# Altium footprint library 74HC595D.PcbLib: 2 footprints
Each footprint in its own frame and in the unit in brackets; x right, y up, seen from the top. Pads: shape width x height; smd on the part's side, far side on the other; paste and mask are expansions set on the pad; w line width, h text height; cw(c..) or ccw(c..) is an arc to the next point about the centre after c.
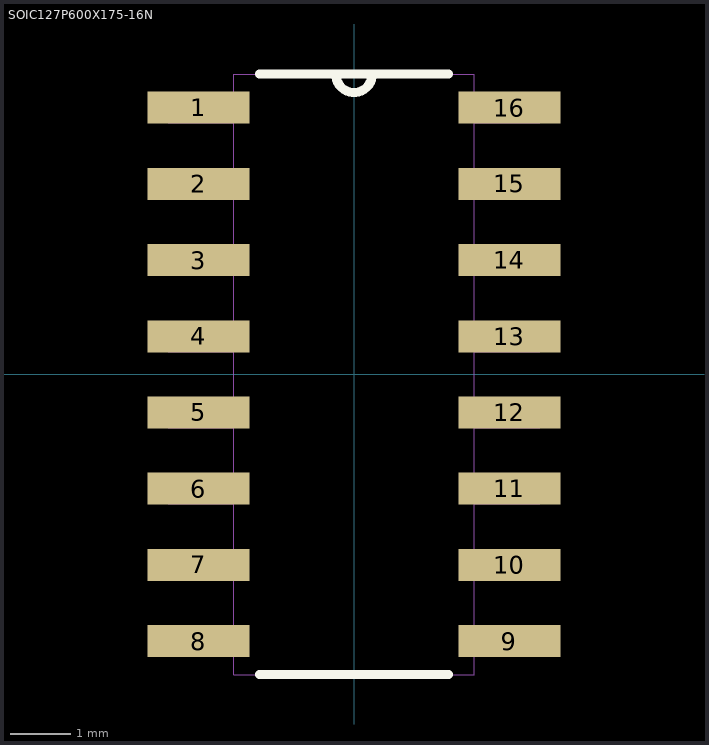
[diagram p0: the footprints below, top view; thin cyan lines are the x and y axes]

## PCBComponent_1 [mil]

## SOIC127P600X175-16N [mil]
pads (16):
  rect 67x21 smd: 1(-102,175) 2(-102,125) 3(-102,75) 4(-102,25) 5(-102,-25) 6(-102,-75) 7(-102,-125) 8(-102,-175) 9(102,-175) 10(102,-125) 11(102,-75) 12(102,-25) 13(102,25) 14(102,75) 15(102,125) 16(102,175)
Top Overlay:
  lines w6: -62,-197 62,-197 ; -62,197 -12,197 ; 62,197 12,197 ; -12,197 ccw(c0,197) 12,197 ; -12,197 12,197
Mechanical 4:
  lines w0: -122,-185 -79,-185 ; -122,-185 -122,-165 ; -122,-185 -79,-185 ; -122,-185 -122,-165 ; -122,-165 -79,-165 ; -122,-165 -79,-165 ; -122,-135 -79,-135 ; -122,-135 -122,-115 ; -122,-135 -79,-135 ; -122,-135 -122,-115 ; -122,-115 -79,-115 ; -122,-115 -79,-115 ; -122,-85 -79,-85 ; -122,-85 -122,-65 ; -122,-85 -79,-85 ; -122,-85 -122,-65 ; -122,-65 -79,-65 ; -122,-65 -79,-65 ; -122,-35 -79,-35 ; -122,-35 -122,-15 ; -122,-35 -79,-35 ; -122,-35 -122,-15 ; -122,-15 -79,-15 ; -122,-15 -79,-15 ; -122,15 -79,15 ; -122,15 -122,35 ; -122,15 -79,15 ; -122,15 -122,35 ; -122,35 -79,35 ; -122,35 -79,35 ; -122,65 -79,65 ; -122,65 -122,85 ; -122,65 -79,65 ; -122,65 -122,85 ; -122,85 -79,85 ; -122,85 -79,85 ; -122,115 -79,115 ; -122,115 -122,135 ; -122,115 -79,115 ; -122,115 -122,135 ; -122,135 -79,135 ; -122,135 -79,135 ; -122,165 -79,165 ; -122,165 -122,185 ; -122,165 -79,165 ; -122,165 -122,185 ; -122,185 -79,185 ; -122,185 -79,185 ; -79,-197 -79,197 ; -79,-197 79,-197 ; -79,-197 -79,197 ; -79,-197 79,-197 ; -79,-185 -79,-165 ; -79,-185 -79,-165 ; -79,-135 -79,-115 ; -79,-135 -79,-115 ; -79,-85 -79,-65 ; -79,-85 -79,-65 ; -79,-35 -79,-15 ; -79,-35 -79,-15 ; -79,15 -79,35 ; -79,15 -79,35 ; -79,65 -79,85 ; -79,65 -79,85 ; -79,115 -79,135 ; -79,115 -79,135 ; -79,165 -79,185 ; -79,165 -79,185 ; -79,197 -12,197 ; -79,197 -12,197 ; -12,197 ccw(c0,197) 12,197 ; -12,197 ccw(c0,197) 12,197 ; -12,197 12,197 ; -12,197 12,197 ; 12,197 79,197 ; 12,197 79,197 ; 79,-197 79,197 ; 79,-197 79,197 ; 79,-185 122,-185 ; 79,-185 79,-165 ; 79,-185 122,-185 ; 79,-185 79,-165 ; 79,-165 122,-165 ; 79,-165 122,-165 ; 79,-135 122,-135 ; 79,-135 79,-115 ; 79,-135 122,-135 ; 79,-135 79,-115 ; 79,-115 122,-115 ; 79,-115 122,-115 ; 79,-85 122,-85 ; 79,-85 79,-65 ; 79,-85 122,-85 ; 79,-85 79,-65 ; 79,-65 122,-65 ; 79,-65 122,-65 ; 79,-35 122,-35 ; 79,-35 79,-15 ; 79,-35 122,-35 ; 79,-35 79,-15 ; 79,-15 122,-15 ; 79,-15 122,-15 ; 79,15 122,15 ; 79,15 79,35 ; 79,15 122,15 ; 79,15 79,35 ; 79,35 122,35 ; 79,35 122,35 ; 79,65 122,65 ; 79,65 79,85 ; 79,65 122,65 ; 79,65 79,85 ; 79,85 122,85 ; 79,85 122,85 ; 79,115 122,115 ; 79,115 79,135 ; 79,115 122,115 ; 79,115 79,135 ; 79,135 122,135 ; 79,135 122,135 ; 79,165 122,165 ; 79,165 79,185 ; 79,165 122,165 ; 79,165 79,185 ; 79,185 122,185 ; 79,185 122,185 ; 122,-185 122,-165 ; 122,-185 122,-165 ; 122,-135 122,-115 ; 122,-135 122,-115 ; 122,-85 122,-65 ; 122,-85 122,-65 ; 122,-35 122,-15 ; 122,-35 122,-15 ; 122,15 122,35 ; 122,15 122,35 ; 122,65 122,85 ; 122,65 122,85 ; 122,115 122,135 ; 122,115 122,135 ; 122,165 122,185 ; 122,165 122,185